# Altium schematic symbol library BUTTON and SWITCH.SchLib: 1 symbol
Pins are listed as number, name and electrical type; pins without a type are passive.

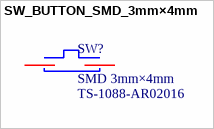
[diagram p0: symbol SW_BUTTON_SMD_3mm×4mm]

## SW_BUTTON_SMD_3mm×4mm
designator SW?, comment SMD 3mm×4mm  Mfr. Part: TS-1088-AR02016
Without Bracket 50mA 4mm 100,000 Cycles 12V 1.6N 3mm 2mm Round Button Surface Mount,Vertical SPST SMD Tactile Switches ROHS; Manufacturer: XUNPU; LCSC Part: C720477; Package: SMD; Length: 4mm; Width: 3mm; Voltage Rating: 12V; Operating Temperature: -30℃~+80℃; Link: https://www.lcsc.com/product-detail/C720477.html?s_z=n_Button
footprint ROUND_BUTTON_SMD 3*4mm
pins: 1, 2